# Altium schematic symbol library tyco-usb.SchLib: 3 symbols
Pins are listed as number, name and electrical type; pins without a type are passive.

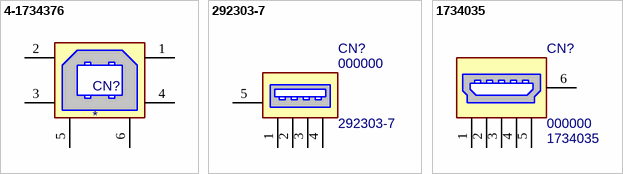
[diagram p0: symbols 4-1734376 to 1734035]

## 4-1734376
designator CN?
USB Type B - Right Angle - Thru Hole; PN: *; Value: *; Package: *; ExtraInfo: *
footprint 4-1734376 (USB Conn. Series B, 4P, R/A, THRU HOLE, W/ BACK SHELL)
pins: 1, 2, 3, 4, 5 SHIELD, 6 SHIELD

## 292303-7
designator CN?, comment 000000  value 292303-7
USB Type A - Right Angle - SMD; Package: SMT; PN: 000000; ExtraInfo: *
footprint 292303-7 (USB Conn. A Type, R/A, SMT)
pins: 1, 2, 3, 4, 5 SHIELD

## 1734035
designator CN?, comment 000000  value 1734035
USB Type B Mini - Right Angle - SMD; Package: SMT; PN: 000000; ExtraInfo: *
footprint 1734035 (Mini USB Conn. B Type, R/A, SMT)
pins: 1, 2, 3, 4, 5, 6 SHIELD